# EAGLE library part PIC18F26J50 (library X893)
http://ww1.microchip.com/downloads/en/DeviceDoc/39931c.pdf
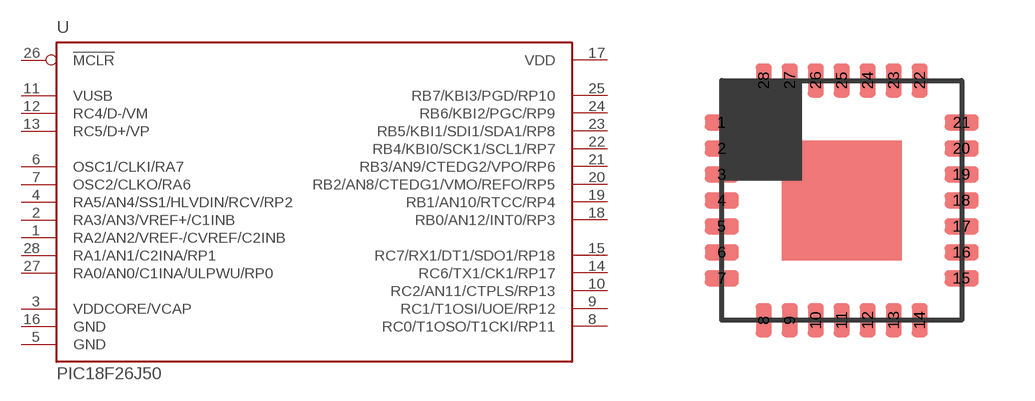
[diagram p47: symbol with the pads of QFN28-6X6; footprint QFN28-6X6]

Designator prefix U

## PIC18F26J50  [QFN28-6X6]
1  RA2/AN2/VREF-/CVREF/C2INB
2  RA3/AN3/VREF+/C1INB
3  VDDCORE/VCAP
4  RA5/AN4/SS1/HLVDIN/RCV/RP2
5  GND  pwr
6  OSC1/CLKI/RA7
7  OSC2/CLKO/RA6
8  RC0/T1OSO/T1CKI/RP11
9  RC1/T1OSI/UOE/RP12
10  RC2/AN11/CTPLS/RP13
11  VUSB  pas
12  RC4/D-/VM
13  RC5/D+/VP
14  RC6/TX1/CK1/RP17
15  RC7/RX1/DT1/SDO1/RP18
16  GND  pwr
17  VDD  pwr
18  RB0/AN12/INT0/RP3
19  RB1/AN10/RTCC/RP4
20  RB2/AN8/CTEDG1/VMO/REFO/RP5
21  RB3/AN9/CTEDG2/VPO/RP6
22  RB4/KBI0/SCK1/SCL1/RP7
23  RB5/KBI1/SDI1/SDA1/RP8
24  RB6/KBI2/PGC/RP9
25  RB7/KBI3/PGD/RP10
26  !MCLR  in
27  RA0/AN0/C1INA/ULPWU/RP0
28  RA1/AN1/C2INA/RP1

## Footprint QFN28-6X6 (pad centres in mm)
http://ww1.microchip.com/downloads/en/DeviceDoc/39931c.pdf
smd 0.85 x 0.4: 1 -3,1.95; 2 -3,1.3; 3 -3,0.65; 4 -3,0; 5 -3,-0.65; 6 -3,-1.3; 7 -3,-1.95; 15 3,-1.95; 16 3,-1.3; 17 3,-0.65; 18 3,0; 19 3,0.65; 20 3,1.3; 21 3,1.95
smd 0.4 x 0.85: 8 -1.95,-3; 9 -1.3,-3; 10 -0.65,-3; 11 0,-3; 12 0.65,-3; 13 1.3,-3; 14 1.95,-3; 22 1.95,3; 23 1.3,3; 24 0.65,3; 25 0,3; 26 -0.65,3; 27 -1.3,3; 28 -1.95,3